# Altium schematic symbol library SL_Resistors_Float.SchLib: 1 symbol
Pins are listed as number, name and electrical type; pins without a type are passive.

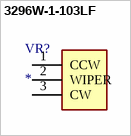
[diagram p0: symbol 3296W-1-103LF]

## 3296W-1-103LF
designator VR?
Variable Resistor, 10kOm; Manufacturer_Name: Bourns; Manufacturer_Part_Number: 3296W-1-103LF; Datasheet Link: https://www.bourns.com/pdfs/3296.pdf; Height: 10.28mm; Mouser Part Number: 652-3296W-1-103LF; Mouser Price/Stock: https://www.mouser.co.uk/ProductDetail/Bourns/3296W-1-103LF?qs=CL3xLxiry19Id6AEaxYcng%3D%3D; Arrow Part Number: 3296W-1-103LF; Arrow Price/Stock: https://www.arrow.com/en/products/3296w-1-103lf/bourns?utm_currency=USD&region=europe
footprint 3296W1503LF
pins: 1 CCW, 2 WIPER, 3 CW